# Altium footprint library AD7730BRZ.PcbLib: 1 footprints
Each footprint in its own frame and in the unit in brackets; x right, y up, seen from the top. Pads: shape width x height; smd on the part's side, far side on the other; paste and mask are expansions set on the pad; w line width, h text height; cw(c..) or ccw(c..) is an arc to the next point about the centre after c.
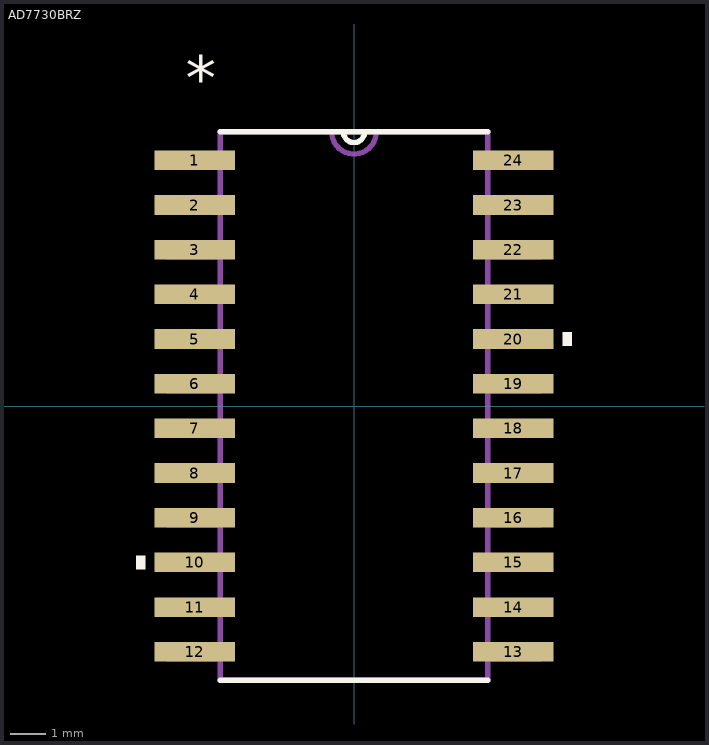
[diagram p0: the footprint, top view; thin cyan lines are the x and y axes]

## AD7730BRZ [mil] "24 pin soic"
height 104
pads (24):
  rect 90.5x22 smd: 1(-178.25,275) 2(-178.25,225) 3(-178.25,175) 4(-178.25,125) 5(-178.25,75) 6(-178.25,25) 7(-178.25,-25) 8(-178.25,-75) 9(-178.25,-125) 10(-178.25,-175) 11(-178.25,-225) 12(-178.25,-275) 13(178.25,-275) 14(178.25,-225) 15(178.25,-175) 16(178.25,-125) 17(178.25,-75) 18(178.25,-25) 19(178.25,25) 20(178.25,75) 21(178.25,125) 22(178.25,175) 23(178.25,225) 24(178.25,275)
Top Overlay:
  region: 233.5,82.5 243.5,82.5 243.5,67.5 233.5,67.5
  region: -233.5,-167.5 -243.5,-167.5 -243.5,-182.5 -233.5,-182.5
  lines w6: -149.5,-307 149.5,-307 ; -149.5,307 149.5,307 ; -12,307 ccw(c0,307) 12,307
  text "*" at -188.25,342 h50
Mechanical 1:
  lines w0: -12,307 ccw(c0,307) 12,307 ; -209.5,-285 -149.5,-285 -149.5,-265 -209.5,-265 -209.5,-285 ; -209.5,-235 -149.5,-235 -149.5,-215 -209.5,-215 -209.5,-235 ; -209.5,-185 -149.5,-185 -149.5,-165 -209.5,-165 -209.5,-185 ; -209.5,-135 -149.5,-135 -149.5,-115 -209.5,-115 -209.5,-135 ; -209.5,-85 -149.5,-85 -149.5,-65 -209.5,-65 -209.5,-85 ; -209.5,-35 -149.5,-35 -149.5,-15 -209.5,-15 -209.5,-35 ; -209.5,15 -149.5,15 -149.5,35 -209.5,35 -209.5,15 ; -209.5,65 -149.5,65 -149.5,85 -209.5,85 -209.5,65 ; -209.5,115 -149.5,115 -149.5,135 -209.5,135 -209.5,115 ; -209.5,165 -149.5,165 -149.5,185 -209.5,185 -209.5,165 ; -209.5,215 -149.5,215 -149.5,235 -209.5,235 -209.5,215 ; -209.5,265 -149.5,265 -149.5,285 -209.5,285 -209.5,265 ; -149.5,-307 -149.5,307 149.5,307 149.5,-307 -149.5,-307 ; 149.5,-285 209.5,-285 209.5,-265 149.5,-265 149.5,-285 ; 149.5,-235 209.5,-235 209.5,-215 149.5,-215 149.5,-235 ; 149.5,-185 209.5,-185 209.5,-165 149.5,-165 149.5,-185 ; 149.5,-135 209.5,-135 209.5,-115 149.5,-115 149.5,-135 ; 149.5,-85 209.5,-85 209.5,-65 149.5,-65 149.5,-85 ; 149.5,-35 209.5,-35 209.5,-15 149.5,-15 149.5,-35 ; 149.5,15 209.5,15 209.5,35 149.5,35 149.5,15 ; 149.5,65 209.5,65 209.5,85 149.5,85 149.5,65 ; 149.5,115 209.5,115 209.5,135 149.5,135 149.5,115 ; 149.5,165 209.5,165 209.5,185 149.5,185 149.5,165 ; 149.5,215 209.5,215 209.5,235 149.5,235 149.5,215 ; 149.5,265 209.5,265 209.5,285 149.5,285 149.5,265
  lines w6: -24.92,307 ccw(c0,307) 24.92,307 ; -149.5,-307 149.5,-307 149.5,307 -149.5,307 -149.5,-307
  text "*" at -188.25,342 h50